# Altium footprint library LED_THT.PcbLib: 82 footprints (part 6 of 6)
Each footprint in its own frame and in the unit in brackets; x right, y up, seen from the top. Pads: shape width x height; smd on the part's side, far side on the other; paste and mask are expansions set on the pad; w line width, h text height; cw(c..) or ccw(c..) is an arc to the next point about the centre after c.
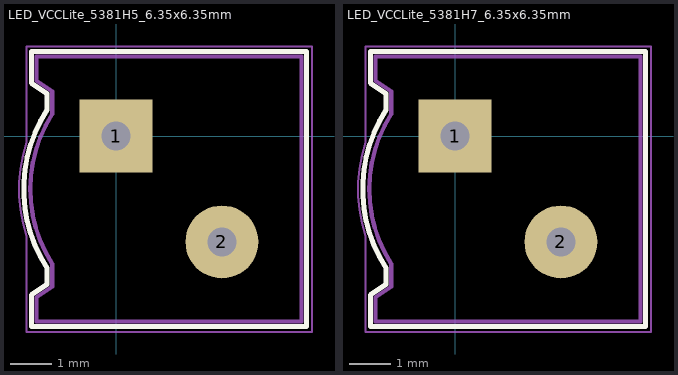
[diagram p5: the footprints below, top view; thin cyan lines are the x and y axes]

## LED_VCCLite_5381H5_6.35x6.35mm [mm]
pads (2):
  rect 1.75x1.75 hole 0.7: 1(0,0)
  round 1.75 hole 0.7: 2(2.54,-2.54)
F.SilkS:
  lines w0.12: -1.652,-3.174 cw(c1.27,-1.27) -1.651,0.635 -1.651,1.016 -2.032,1.27 -2.032,2.032 4.572,2.032 4.572,-4.572 -2.032,-4.572 -2.032,-3.81 -1.651,-3.556 -1.651,-3.175
F.CrtYd:
  lines w0.05: -2.15,-2.4 -2.15,-4.7 4.7,-4.7 4.7,2.15 -2.15,2.15 -2.15,-0.15 ccw(c1.27,-1.27) -2.147,-2.399
F.Fab:
  lines w0.1: -1.538,-3.057 cw(c1.27,-1.27) -1.53,0.53 -1.53,1.07 -1.91,1.33 -1.91,1.91 4.45,1.91 4.45,-4.45 -1.91,-4.45 -1.91,-3.87 -1.53,-3.61 -1.53,-3.07
  text "'.Designator'" at -2.777,-2.11 h1

## LED_VCCLite_5381H7_6.35x6.35mm [mm]
pads (2):
  rect 1.75x1.75 hole 0.7: 1(0,0)
  round 1.75 hole 0.7: 2(2.54,-2.54)
F.SilkS:
  lines w0.12: -1.652,-3.174 cw(c1.27,-1.27) -1.651,0.635 -1.651,1.016 -2.032,1.27 -2.032,2.032 4.572,2.032 4.572,-4.572 -2.032,-4.572 -2.032,-3.81 -1.651,-3.556 -1.651,-3.175
F.CrtYd:
  lines w0.05: -2.15,-2.4 -2.15,-4.7 4.7,-4.7 4.7,2.15 -2.15,2.15 -2.15,-0.15 ccw(c1.27,-1.27) -2.147,-2.399
F.Fab:
  lines w0.1: -1.538,-3.057 cw(c1.27,-1.27) -1.53,0.53 -1.53,1.07 -1.91,1.33 -1.91,1.91 4.45,1.91 4.45,-4.45 -1.91,-4.45 -1.91,-3.87 -1.53,-3.61 -1.53,-3.07
  text "'.Designator'" at -2.777,-2.11 h1